# Altium footprint library Button.PcbLib: 1 footprints
Each footprint in its own frame and in the unit in brackets; x right, y up, seen from the top. Pads: shape width x height; smd on the part's side, far side on the other; paste and mask are expansions set on the pad; w line width, h text height; cw(c..) or ccw(c..) is an arc to the next point about the centre after c.
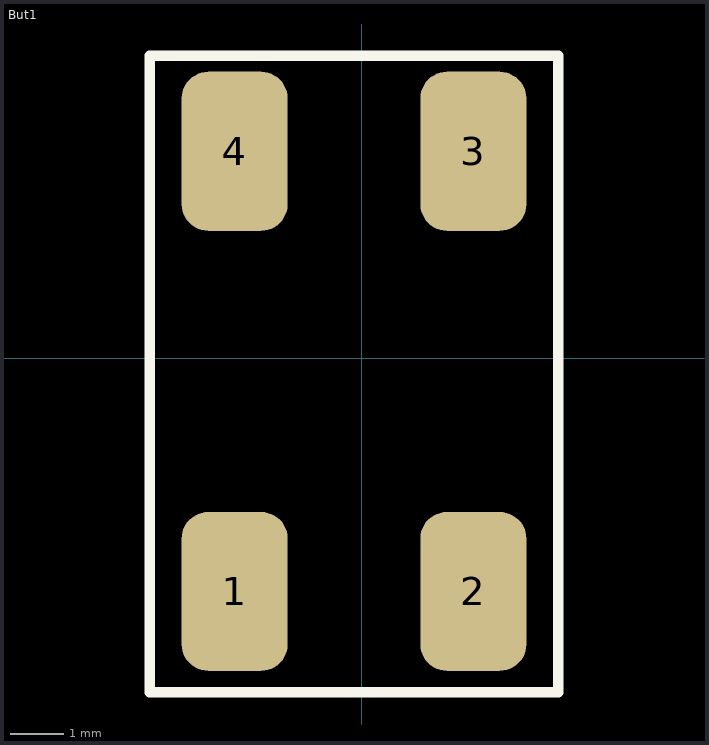
[diagram p0: the footprint, top view; thin cyan lines are the x and y axes]

## But1 [mm]
pads (4):
  rrect50% 2x3 smd: 1(-2.4,-4.4) 2(2.1,-4.4) 3(2.1,3.9) 4(-2.4,3.9)
Top Overlay:
  lines w0.2: -4,-6.3 -4,5.7 3.5,5.7 3.7,5.7 3.7,-6.3 -4,-6.3